# Altium schematic symbol library sdcard.SchLib: 2 symbols
Pins are listed as number, name and electrical type; pins without a type are passive.

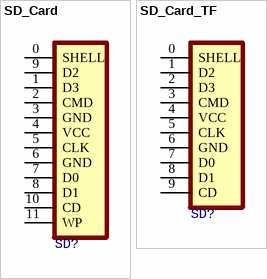
[diagram p0: symbols SD_Card to SD_Card_TF]

## SD_Card
designator SD?  (value not drawn)
SD
footprint SD_Card
footprint SD_Card_1
pins: 0 SHELL, 1 D3, 2 CMD, 3 GND, 4 VCC, 5 CLK, 6 GND, 7 D0, 8 D1, 9 D2, 10 CD, 11 WP

## SD_Card_TF
designator SD?  (value not drawn)
SD
footprint SD_Card_TF
pins: 0 SHELL, 1 D2, 2 D3, 3 CMD, 4 VCC, 5 CLK, 6 GND, 7 D0, 8 D1, 9 CD